# Altium schematic symbol library NTC-Thermistors.SchLib: 1 symbol
Pins are listed as number, name and electrical type; pins without a type are passive.

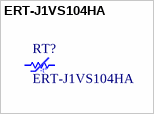
[diagram p0: symbol ERT-J1VS104HA]

## ERT-J1VS104HA
designator RT?
THERM NTC 100KOHM 4330K 0603; Value: 100K; Precision: 3%; Supplier 1: Digi-Key; Supplier Part Number 1: P12018TR-ND; Package / Case: 0603 (1608 Metric); Mounted: Yes
footprint CAPACITOR-0603 (Metric 1608, EIA 0603. Per Yageo Product Specification V2.2)
pins: 1, 2
text: -t°